# Altium schematic symbol library 100uF 6.3V Tantalum TAJC107K006RNJ.Schlib: 1 symbol
Pins are listed as number, name and electrical type; pins without a type are passive.

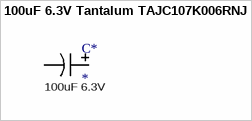
[diagram p0: symbol 100uF 6.3V Tantalum TAJC107K006RNJ]

## 100uF 6.3V Tantalum TAJC107K006RNJ
designator C*  value 100uF 6.3V
100uF ±10% 6.3V 900 mΩ @ 100kHz -55℃ ~ +125℃ CASE-C_6032 Tantalum Capacitors RoHS; ComponentLink1Description: LCSC - AVX TAJC107K006RNJ; ComponentLink1URL: https://lcsc.com/product-detail/Tantalum-Capacitors_AVX_TAJC107K006RNJ_100uF-107-10-6-3V_C63711.html
footprint AVX TAJC107K006RNJ
pins: 1, 2